# EAGLE library part ATTINY84A-PU (library Programmer)
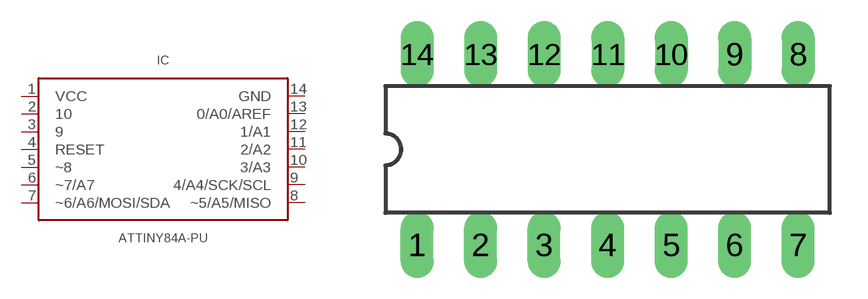
[diagram p2: symbol with the pads of DIP14; footprint DIP14]

Designator prefix IC

## ATTINY84A-PU  [DIP14]
1  VCC
2  10
3  9
4  RESET
5  ~8
6  ~7/A7
7  ~6/A6/MOSI/SDA
8  ~5/A5/MISO
9  4/A4/SCK/SCL
10  3/A3
11  2/A2
12  1/A1
13  0/A0/AREF
14  GND

## Footprint DIP14 (pad centres in mm)
Dual In Line
drill 0.813 long: 1 -7.62,-3.81; 2 -5.08,-3.81; 3 -2.54,-3.81; 4 0,-3.81; 5 2.54,-3.81; 6 5.08,-3.81; 7 7.62,-3.81; 8 7.62,3.81; 9 5.08,3.81; 10 2.54,3.81; 11 0,3.81; 12 -2.54,3.81; 13 -5.08,3.81; 14 -7.62,3.81